# Altium schematic symbol library PSC3M5_E-LQFP-48.SchLib: 1 symbol
Pins are listed as number, name and electrical type; pins without a type are passive.

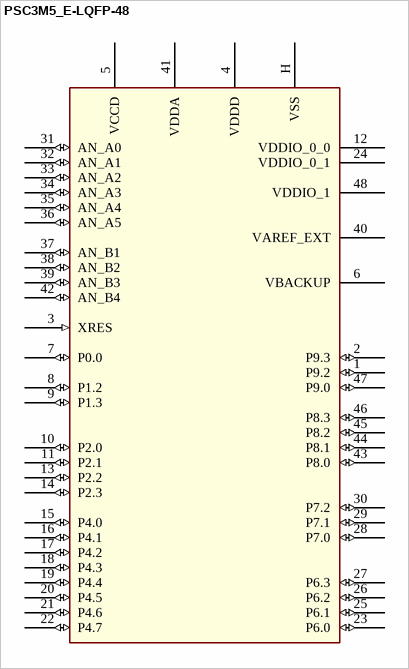
[diagram p0: symbol PSC3M5_E-LQFP-48]

## PSC3M5_E-LQFP-48
designator U?
pins: 1 P9.2 (io), 2 P9.3 (io), 3 XRES (in), 4 VDDD (power), 5 VCCD (power), 6 VBACKUP (power), 7 P0.0 (io), 8 P1.2 (io), 9 P1.3 (io), 10 P2.0 (io), 11 P2.1 (io), 12 VDDIO_0_0 (power), 13 P2.2 (io), 14 P2.3 (io), 15 P4.0 (io), 16 P4.1 (io), 17 P4.2 (io), 18 P4.3 (io), 19 P4.4 (io), 20 P4.5 (io), 21 P4.6 (io), 22 P4.7 (io), 23 P6.0 (io), 24 VDDIO_0_1 (power), 25 P6.1 (io), 26 P6.2 (io), 27 P6.3 (io), 28 P7.0 (io), 29 P7.1 (io), 30 P7.2 (io), 31 AN_A0 (io), 32 AN_A1 (io), 33 AN_A2 (io), 34 AN_A3 (io), 35 AN_A4 (io), 36 AN_A5 (io), 37 AN_B1 (io), 38 AN_B2 (io), 39 AN_B3 (io), 40 VAREF_EXT (power), 41 VDDA (power), 42 AN_B4 (io), 43 P8.0 (io), 44 P8.1 (io), 45 P8.2 (io), 46 P8.3 (io), 47 P9.0 (io), 48 VDDIO_1 (power), H VSS (power)